# Altium integrated library Diodes - TVS.IntLib: 5379 symbols (part 23 of 122)
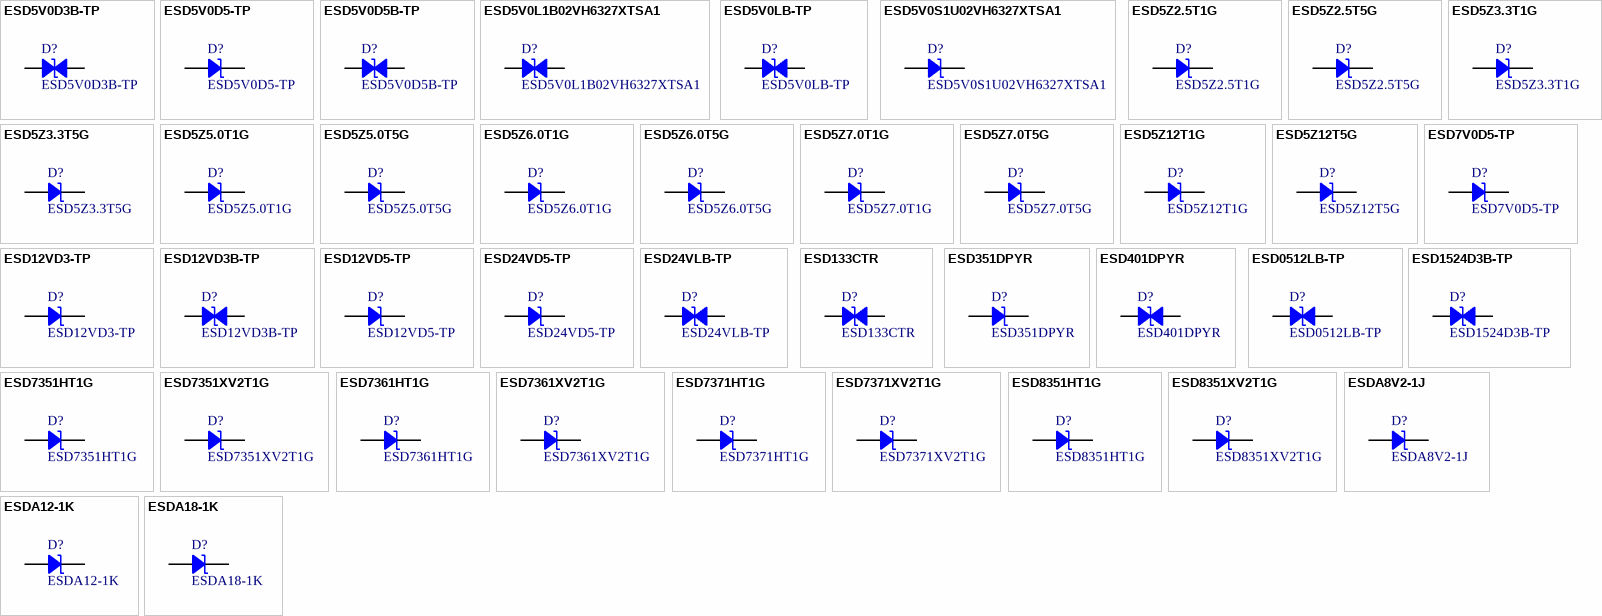
[diagram p156: symbols ESD5V0D3B-TP to ESDA18-1K]

## ESD5Z5.0T1G
designator D?
TVS DIODE 5V 18.6V SOD523; Manufacturer: ON Semiconductor; Capacitance @ Frequency: 80pF @ 1MHz; Current - Peak Pulse (10/1000µs): 9.4A (8/20µs); Power Line Protection: No; Power - Peak Pulse: 174W; Type: Zener; Unidirectional Channels: 1; Voltage - Breakdown (Min): 6.2V; Voltage - Reverse Standoff (Typ): 5V (Max); Part Number: ESD5Z5.0T1G; Applications: General Purpose; ComponentLink1Description: Datasheet; ComponentLink1URL: https://www.onsemi.com/pub/Collateral/ESD5Z2.5T1-D.PDF; ComponentLink2Description: DigiKey Link; ComponentLink2URL: http://digikey.com/product-detail/en/on-semiconductor/ESD5Z5.0T1G/ESD5Z5.0T1GOSCT-ND/1967045; LastUpdated: 9/2/2020 1:28:24 AM; Lifecycle Status: Active; Minimum Order: 1; Mounting Type: Surface Mount; Operating Temperature: -55°C ~ 150°C (TJ); Package / Case: SC-79, SOD-523; Packaging: TapeAndReel; PartId: 9755; Part Status: Active; Price: 0.04; Series: -; Supplier 1: DigiKey; Supplier Part Number 1: ESD5Z5.0T1GOSCT-ND; Supplier Device Package: SOD-523; Voltage - Clamping (Max) @ Ipp: 18.6V
footprint SOD523F
pins: 1, 2

## ESD5Z5.0T5G
designator D?
TVS DIODE 5V 18.6V SOD523; Manufacturer: ON Semiconductor; Capacitance @ Frequency: 80pF @ 1MHz; Current - Peak Pulse (10/1000µs): 9.4A (8/20µs); Power Line Protection: No; Power - Peak Pulse: 174W; Type: Zener; Unidirectional Channels: 1; Voltage - Breakdown (Min): 6.2V; Voltage - Reverse Standoff (Typ): 5V (Max); Part Number: ESD5Z5.0T5G; Applications: General Purpose; ComponentLink1Description: Datasheet; ComponentLink1URL: https://www.onsemi.com/pub/Collateral/ESD5Z2.5T1-D.PDF; ComponentLink2Description: DigiKey Link; ComponentLink2URL: http://digikey.com/product-detail/en/on-semiconductor/ESD5Z5.0T5G/ESD5Z5.0T5GOSCT-ND/9086485; LastUpdated: 9/2/2020 1:28:24 AM; Lifecycle Status: Active; Minimum Order: 1; Mounting Type: Surface Mount; Operating Temperature: -55°C ~ 150°C (TJ); Package / Case: SC-79, SOD-523; Packaging: TapeAndReel; PartId: 9791; Part Status: Active; Price: 0.03; Series: -; Supplier 1: DigiKey; Supplier Part Number 1: ESD5Z5.0T5GOSCT-ND; Supplier Device Package: SOD-523; Voltage - Clamping (Max) @ Ipp: 18.6V
footprint SOD523F
pins: 1, 2

## ESD5Z6.0T1G
designator D?
TVS DIODE 6V 20.5V SOD523; Manufacturer: ON Semiconductor; Capacitance @ Frequency: 70pF @ 1MHz; Current - Peak Pulse (10/1000µs): 8.8A (8/20µs); Power Line Protection: No; Power - Peak Pulse: 181W; Type: Zener; Unidirectional Channels: 1; Voltage - Breakdown (Min): 6.8V; Voltage - Reverse Standoff (Typ): 6V (Max); Part Number: ESD5Z6.0T1G; Applications: General Purpose; ComponentLink1Description: Datasheet; ComponentLink1URL: https://www.onsemi.com/pub/Collateral/ESD5Z2.5T1-D.PDF; ComponentLink2Description: DigiKey Link; ComponentLink2URL: http://digikey.com/product-detail/en/on-semiconductor/ESD5Z6.0T1G/ESD5Z6.0T1GOSCT-ND/1967046; LastUpdated: 9/2/2020 1:28:24 AM; Lifecycle Status: Active; Minimum Order: 1; Mounting Type: Surface Mount; Operating Temperature: -55°C ~ 150°C (TJ); Package / Case: SC-79, SOD-523; Packaging: TapeAndReel; PartId: 9804; Part Status: Active; Price: 0.04; Series: -; Supplier 1: DigiKey; Supplier Part Number 1: ESD5Z6.0T1GOSCT-ND; Supplier Device Package: SOD-523; Voltage - Clamping (Max) @ Ipp: 20.5V
footprint SOD523F
pins: 1, 2

## ESD5Z6.0T5G
designator D?
TVS DIODE 6V 20.5V SOD523; Manufacturer: ON Semiconductor; Capacitance @ Frequency: 70pF @ 1MHz; Current - Peak Pulse (10/1000µs): 8.8A (8/20µs); Power Line Protection: No; Power - Peak Pulse: 181W; Type: Zener; Unidirectional Channels: 1; Voltage - Breakdown (Min): 6.8V; Voltage - Reverse Standoff (Typ): 6V (Max); Part Number: ESD5Z6.0T5G; Applications: General Purpose; ComponentLink1Description: Datasheet; ComponentLink1URL: https://www.onsemi.com/pub/Collateral/ESD5Z2.5T1-D.PDF; ComponentLink2Description: DigiKey Link; ComponentLink2URL: http://digikey.com/product-detail/en/on-semiconductor/ESD5Z6.0T5G/ESD5Z6.0T5GOSCT-ND/9086486; LastUpdated: 9/2/2020 1:28:24 AM; Lifecycle Status: Active; Minimum Order: 1; Mounting Type: Surface Mount; Operating Temperature: -55°C ~ 150°C (TJ); Package / Case: SC-79, SOD-523; Packaging: TapeAndReel; PartId: 9807; Part Status: Active; Price: 0.03; Series: -; Supplier 1: DigiKey; Supplier Part Number 1: ESD5Z6.0T5GOSCT-ND; Supplier Device Package: SOD-523; Voltage - Clamping (Max) @ Ipp: 20.5V
footprint SOD523F
pins: 1, 2

## ESD5Z7.0T1G
designator D?
TVS DIODE 7V 22.7V SOD523; Manufacturer: ON Semiconductor; Capacitance @ Frequency: 65pF @ 1MHz; Current - Peak Pulse (10/1000µs): 8.8A (8/20µs); Power Line Protection: No; Power - Peak Pulse: 200W; Type: Zener; Unidirectional Channels: 1; Voltage - Breakdown (Min): 7.5V; Voltage - Reverse Standoff (Typ): 7V (Max); Part Number: ESD5Z7.0T1G; Applications: General Purpose; ComponentLink1Description: Datasheet; ComponentLink1URL: https://www.onsemi.com/pub/Collateral/ESD5Z2.5T1-D.PDF; ComponentLink2Description: DigiKey Link; ComponentLink2URL: http://digikey.com/product-detail/en/on-semiconductor/ESD5Z7.0T1G/ESD5Z7.0T1GOSCT-ND/2120622; LastUpdated: 9/2/2020 1:28:24 AM; Lifecycle Status: Active; Minimum Order: 1; Mounting Type: Surface Mount; Operating Temperature: -55°C ~ 150°C (TJ); Package / Case: SC-79, SOD-523; Packaging: TapeAndReel; PartId: 9808; Part Status: Active; Price: 0.03; Series: -; Supplier 1: DigiKey; Supplier Part Number 1: ESD5Z7.0T1GOSCT-ND; Supplier Device Package: SOD-523; Voltage - Clamping (Max) @ Ipp: 22.7V
footprint SOD523F
pins: 1, 2

## ESD5Z7.0T5G
designator D?
TVS DIODE 7V 22.7V SOD523; Manufacturer: ON Semiconductor; Capacitance @ Frequency: 65pF @ 1MHz; Current - Peak Pulse (10/1000µs): 8.8A (8/20µs); Power Line Protection: No; Power - Peak Pulse: 200W; Type: Zener; Unidirectional Channels: 1; Voltage - Breakdown (Min): 7.5V; Voltage - Reverse Standoff (Typ): 7V (Max); Part Number: ESD5Z7.0T5G; Applications: General Purpose; ComponentLink1Description: Datasheet; ComponentLink1URL: https://www.onsemi.com/pub/Collateral/ESD5Z2.5T1-D.PDF; ComponentLink2Description: DigiKey Link; ComponentLink2URL: http://digikey.com/product-detail/en/on-semiconductor/ESD5Z7.0T5G/ESD5Z7.0T5GOSCT-ND/9086487; LastUpdated: 9/2/2020 1:28:24 AM; Lifecycle Status: Active; Minimum Order: 1; Mounting Type: Surface Mount; Operating Temperature: -55°C ~ 150°C (TJ); Package / Case: SC-79, SOD-523; Packaging: CutTape; PartId: 9801; Part Status: Active; Price: 0.37; Series: -; Supplier 1: DigiKey; Supplier Part Number 1: ESD5Z7.0T5GOSCT-ND; Supplier Device Package: SOD-523; Voltage - Clamping (Max) @ Ipp: 22.7V
footprint SOD523F
pins: 1, 2

## ESD5Z12T1G
designator D?
TVS DIODE 12V 25V SOD523; Manufacturer: ON Semiconductor; Capacitance @ Frequency: 55pF @ 1MHz; Current - Peak Pulse (10/1000µs): 9.6A (8/20µs); Power Line Protection: No; Power - Peak Pulse: 240W; Type: Zener; Unidirectional Channels: 1; Voltage - Breakdown (Min): 14.1V; Voltage - Reverse Standoff (Typ): 12V (Max); Part Number: ESD5Z12T1G; Applications: General Purpose; ComponentLink1Description: Datasheet; ComponentLink1URL: https://www.onsemi.com/pub/Collateral/ESD5Z2.5T1-D.PDF; ComponentLink2Description: DigiKey Link; ComponentLink2URL: http://digikey.com/product-detail/en/on-semiconductor/ESD5Z12T1G/ESD5Z12T1GOSCT-ND/2120621; LastUpdated: 9/2/2020 1:28:24 AM; Lifecycle Status: Active; Minimum Order: 1; Mounting Type: Surface Mount; Operating Temperature: -55°C ~ 150°C (TJ); Package / Case: SC-79, SOD-523; Packaging: TapeAndReel; PartId: 9805; Part Status: Active; Price: 0.04; Series: -; Supplier 1: DigiKey; Supplier Part Number 1: ESD5Z12T1GOSCT-ND; Supplier Device Package: SOD-523; Voltage - Clamping (Max) @ Ipp: 25V
footprint SOD523F
pins: 1, 2

## ESD5Z12T5G
designator D?
TVS DIODE 12V 25V SOD523; Manufacturer: ON Semiconductor; Capacitance @ Frequency: 55pF @ 1MHz; Current - Peak Pulse (10/1000µs): 9.6A (8/20µs); Power Line Protection: No; Power - Peak Pulse: 240W; Type: Zener; Unidirectional Channels: 1; Voltage - Breakdown (Min): 14.1V; Voltage - Reverse Standoff (Typ): 12V (Max); Part Number: ESD5Z12T5G; Applications: General Purpose; ComponentLink1Description: Datasheet; ComponentLink1URL: https://www.onsemi.com/pub/Collateral/ESD5Z2.5T1-D.PDF; ComponentLink2Description: DigiKey Link; ComponentLink2URL: http://digikey.com/product-detail/en/on-semiconductor/ESD5Z12T5G/ESD5Z12T5GOSCT-ND/9086483; LastUpdated: 9/2/2020 1:28:23 AM; Lifecycle Status: Active; Minimum Order: 1; Mounting Type: Surface Mount; Operating Temperature: -55°C ~ 150°C (TJ); Package / Case: SC-79, SOD-523; Packaging: TapeAndReel; PartId: 9722; Part Status: Active; Price: 0.03; Series: -; Supplier 1: DigiKey; Supplier Part Number 1: ESD5Z12T5GOSCT-ND; Supplier Device Package: SOD-523; Voltage - Clamping (Max) @ Ipp: 25V
footprint SOD523F
pins: 1, 2

## ESD7V0D5-TP
designator D?
TVS DIODE 7V 22.7V SOD523; Manufacturer: Micro Commercial Co; Capacitance @ Frequency: 65pF @ 1MHz; Current - Peak Pulse (10/1000µs): 8.8A (8/20µs); Power Line Protection: No; Power - Peak Pulse: 200W; Type: Zener; Unidirectional Channels: 1; Voltage - Breakdown (Min): 7.5V; Voltage - Reverse Standoff (Typ): 7V (Max); Part Number: ESD7V0D5-TP; Applications: General Purpose; ComponentLink1Description: Datasheet; ComponentLink1URL: https://www.mccsemi.com/pdf/Products/ESD3V3D5-ESD12VD5(SOD-523).pdf; ComponentLink2Description: DigiKey Link; ComponentLink2URL: http://digikey.com/product-detail/en/micro-commercial-co/ESD7V0D5-TP/ESD7V0D5-TPMSCT-ND/1777010; LastUpdated: 9/2/2020 1:28:24 AM; Lifecycle Status: Active; Minimum Order: 1; Mounting Type: Surface Mount; Operating Temperature: -55°C ~ 150°C (TJ); Package / Case: SC-79, SOD-523; Packaging: TapeAndReel; PartId: 9781; Part Status: Active; Price: 0.06; Series: -; Supplier 1: DigiKey; Supplier Part Number 1: ESD7V0D5-TPMSCT-ND; Supplier Device Package: SOD-523; Voltage - Clamping (Max) @ Ipp: 22.7V
footprint SOD523F
pins: 1, 2

## ESD12VD3-TP
designator D?
TVS DIODE 12V 33V SOD323; Manufacturer: Micro Commercial Co; Capacitance @ Frequency: 150pF @ 1MHz; Current - Peak Pulse (10/1000µs): 15A (8/20µs); Power Line Protection: No; Power - Peak Pulse: 350W; Type: Zener; Unidirectional Channels: 1; Voltage - Breakdown (Min): 13.3V; Voltage - Reverse Standoff (Typ): 12V (Max); Part Number: ESD12VD3-TP; Applications: General Purpose; ComponentLink1Description: Datasheet; ComponentLink1URL: https://www.mccsemi.com/pdf/Products/ESD5V0D3-ESD12VD3(SOD-323).pdf; ComponentLink2Description: DigiKey Link; ComponentLink2URL: http://digikey.com/product-detail/en/micro-commercial-co/ESD12VD3-TP/ESD12VD3-TPMSCT-ND/1923301; LastUpdated: 9/2/2020 1:28:27 AM; Lifecycle Status: Active; Minimum Order: 1; Mounting Type: Surface Mount; Operating Temperature: -55°C ~ 150°C (TJ); Package / Case: SC-76, SOD-323; Packaging: TapeAndReel; PartId: 9880; Part Status: Active; Price: 0.06; Series: -; Supplier 1: DigiKey; Supplier Part Number 1: ESD12VD3-TPMSCT-ND; Supplier Device Package: SOD-323; Voltage - Clamping (Max) @ Ipp: 33V
footprint SOD323
pins: 1, 2

## ESD12VD3B-TP
designator D?
TVS DIODE 12V 15.5V SOD323; Manufacturer: Micro Commercial Co; Bidirectional Channels: 1; Capacitance @ Frequency: 80pF @ 1MHz; Current - Peak Pulse (10/1000µs): 1A (8/20µs); Power Line Protection: No; Power - Peak Pulse: 350W; Type: Zener; Voltage - Breakdown (Min): 13.5V; Voltage - Reverse Standoff (Typ): 12V (Max); Part Number: ESD12VD3B-TP; Applications: General Purpose; ComponentLink1Description: Datasheet; ComponentLink1URL: https://www.mccsemi.com/pdf/Products/ESD12VD3B(SOD-323).pdf; ComponentLink2Description: DigiKey Link; ComponentLink2URL: http://digikey.com/product-detail/en/micro-commercial-co/ESD12VD3B-TP/ESD12VD3B-TPMSCT-ND/2783889; LastUpdated: 9/2/2020 1:28:29 AM; Lifecycle Status: Active; Minimum Order: 1; Mounting Type: Surface Mount; Operating Temperature: -55°C ~ 150°C (TJ); Package / Case: SC-76, SOD-323; Packaging: TapeAndReel; PartId: 9922; Part Status: Active; Price: 0.11; Series: -; Supplier 1: DigiKey; Supplier Part Number 1: ESD12VD3B-TPMSCT-ND; Supplier Device Package: SOD-323; Voltage - Clamping (Max) @ Ipp: 15.5V
footprint SOD323
pins: 1, 2

## ESD12VD5-TP
designator D?
TVS DIODE 12V 25V SOD523; Manufacturer: Micro Commercial Co; Capacitance @ Frequency: 55pF @ 1MHz; Current - Peak Pulse (10/1000µs): 9.6A (8/20µs); Power Line Protection: No; Power - Peak Pulse: 240W; Type: Zener; Unidirectional Channels: 1; Voltage - Breakdown (Min): 14.1V; Voltage - Reverse Standoff (Typ): 12V (Max); Part Number: ESD12VD5-TP; Applications: General Purpose; ComponentLink1Description: Datasheet; ComponentLink1URL: https://www.mccsemi.com/pdf/Products/ESD3V3D5-ESD12VD5(SOD-523).pdf; ComponentLink2Description: DigiKey Link; ComponentLink2URL: http://digikey.com/product-detail/en/micro-commercial-co/ESD12VD5-TP/ESD12VD5-TPMSCT-ND/1777012; LastUpdated: 9/2/2020 1:28:24 AM; Lifecycle Status: Active; Minimum Order: 1; Mounting Type: Surface Mount; Operating Temperature: -55°C ~ 150°C (TJ); Package / Case: SC-79, SOD-523; Packaging: TapeAndReel; PartId: 9780; Part Status: Active; Price: 0.06; Series: -; Supplier 1: DigiKey; Supplier Part Number 1: ESD12VD5-TPMSCT-ND; Supplier Device Package: SOD-523; Voltage - Clamping (Max) @ Ipp: 25V
footprint SOD523F
pins: 1, 2

## ESD24VD5-TP
designator D?
ESDPROTECTIONDEVICESSOD-523; Manufacturer: Micro Commercial Co; Capacitance @ Frequency: 36pF @ 1MHz; Current - Peak Pulse (10/1000µs): 7.5A (8/20µs); Power Line Protection: No; Power - Peak Pulse: 330W; Type: Zener; Unidirectional Channels: 1; Voltage - Breakdown (Min): 26.7V; Voltage - Clamping (Max) @ Ipp: 44V; Voltage - Reverse Standoff (Typ): 24V (Max); Part Number: ESD24VD5-TP; Applications: General Purpose; ComponentLink1Description: Datasheet; ComponentLink1URL: https://www.mccsemi.com/pdf/Products/ESD24VD5(SOD-523)-V1.pdf; ComponentLink2Description: DigiKey Link; ComponentLink2URL: http://digikey.com/product-detail/en/micro-commercial-co/ESD24VD5-TP/ESD24VD5-TPMSCT-ND/10054349; LastUpdated: 9/2/2020 1:28:24 AM; Lifecycle Status: Active; Minimum Order: 1; Mounting Type: Surface Mount; Operating Temperature: -55°C ~ 150°C (TJ); Package / Case: SC-79, SOD-523; Packaging: TapeAndReel; PartId: 9798; Part Status: Active; Price: 0.07; Series: -; Supplier 1: DigiKey; Supplier Part Number 1: ESD24VD5-TPMSCT-ND; Supplier Device Package: SOD-523
footprint SOD523F
pins: 1, 2

## ESD24VLB-TP
designator D?
VARISTOR 24V DFN1006-2; Manufacturer: Micro Commercial Co; Bidirectional Channels: 1; Capacitance @ Frequency: 20pF @ 1MHz (Max); Current - Peak Pulse (10/1000µs): 5A (8/20µs); Power Line Protection: No; Power - Peak Pulse: 300W; Type: Zener; Voltage - Breakdown (Min): 27V; Voltage - Clamping (Max) @ Ipp: 40V; Voltage - Reverse Standoff (Typ): 24V (Max); Part Number: ESD24VLB-TP; Applications: General Purpose; ComponentLink1Description: Datasheet; ComponentLink1URL: https://www.mccsemi.com/pdf/Products/ESD24VLB(DFN1006-2)-V1.pdf; ComponentLink2Description: DigiKey Link; ComponentLink2URL: http://digikey.com/product-detail/en/micro-commercial-co/ESD24VLB-TP/ESD24VLB-TPMSCT-ND/10054457; Device Package: 0402 (1006 Metric); LastUpdated: 9/2/2020 1:28:49 AM; Lifecycle Status: Active; Minimum Order: 1; Mounting Type: Surface Mount; Operating Temperature: -55°C ~ 125°C (TJ); Package / Case: 0402 (1006 Metric); Packaging: TapeAndReel; PartId: 10481; Part Status: Active; Price: 0.06; Series: -; Supplier 1: DigiKey; Supplier Part Number 1: ESD24VLB-TPMSCT-ND; Supplier Device Package: DFN1006-2
footprint 0402
pins: 1, 2

## ESD133CTR
designator D?
33V STEERING DIODE,PACKAGE DFN10; Manufacturer: SMC Diode Solutions; Bidirectional Channels: 1; Capacitance @ Frequency: 12pF @ 1MHz; Current - Peak Pulse (10/1000µs): 4A (8/20µs); Power Line Protection: No; Type: Zener; Voltage - Breakdown (Min): 35V; Voltage - Clamping (Max) @ Ipp: 60V; Voltage - Reverse Standoff (Typ): 33V (Max); Part Number: ESD133CTR; Applications: General Purpose; ComponentLink1Description: Datasheet; ComponentLink1URL: http://www.smc-diodes.com/propdf/ESD133C%20N2233%20REV.B.pdf; ComponentLink2Description: DigiKey Link; ComponentLink2URL: http://digikey.com/product-detail/en/smc-diode-solutions/ESD133CTR/1655-ESD133CCT-ND/12173926; LastUpdated: 8/30/2020 9:08:11 PM; Lifecycle Status: Active; Minimum Order: 1; Mounting Type: Surface Mount; Operating Temperature: -55°C ~ 85°C (TA); Package / Case: 0402 (1006 Metric); Packaging: Unknown; PartId: 11497; Price: 0.03; Series: ESD133C; Supplier 1: DigiKey; Supplier Part Number 1: 1655-ESD133CCT-ND; Supplier Device Package: DFN1006-2L
footprint 0402
pins: 1, 2

## ESD351DPYR
designator D?
GENERAL PURPOSE ESD PROTECTION; Manufacturer: Texas Instruments; Capacitance @ Frequency: 1.8pF @ 1MHz; Current - Peak Pulse (10/1000µs): 16A; Power Line Protection: No; Power - Peak Pulse: 36W; Type: Zener; Unidirectional Channels: 1; Voltage - Breakdown (Min): 4.5V; Voltage - Clamping (Max) @ Ipp: 6.5V; Voltage - Reverse Standoff (Typ): 3.6V; Part Number: ESD351DPYR; Applications: General Purpose; ComponentLink1Description: Datasheet; ComponentLink1URL: http://www.ti.com/general/docs/suppproductinfo.tsp?distId=10&gotoUrl=http%3A%2F%2Fwww.ti.com%2Flit%2Fgpn%2Fesd351; ComponentLink2Description: DigiKey Link; ComponentLink2URL: http://digikey.com/product-detail/en/texas-instruments/ESD351DPYR/296-51109-1-ND/9745473; Device Package: 0402 (1006 Metric); LastUpdated: 9/2/2020 1:28:45 AM; Lifecycle Status: Active; Minimum Order: 1; Mounting Type: Surface Mount; Operating Temperature: -40°C ~ 125°C; Package / Case: 0402 (1006 Metric); Packaging: TapeAndReel; PartId: 10376; Part Status: Active; Price: 0.10; Series: -; Supplier 1: DigiKey; Supplier Part Number 1: 296-51109-1-ND; Supplier Device Package: 2-X1SON (1x.60)
footprint 0402
pins: 1, 2

## ESD401DPYR
designator D?
TVS DIODE 5.5V 24V 2X1SON; Manufacturer: Texas Instruments; Bidirectional Channels: 1; Current - Peak Pulse (10/1000µs): 4.5A (8/20µs); Power Line Protection: No; Power - Peak Pulse: 67W; Type: Zener; Voltage - Breakdown (Min): 7.5V; Voltage - Clamping (Max) @ Ipp: 24V (Typ); Voltage - Reverse Standoff (Typ): 5.5V (Max); Part Number: ESD401DPYR; Applications: General Purpose; ComponentLink1Description: Datasheet; ComponentLink1URL: http://www.ti.com/general/docs/suppproductinfo.tsp?distId=10&gotoUrl=http%3A%2F%2Fwww.ti.com%2Flit%2Fgpn%2Fesd401; ComponentLink2Description: DigiKey Link; ComponentLink2URL: http://digikey.com/product-detail/en/texas-instruments/ESD401DPYR/296-47160-1-ND/7650254; Device Package: 0402 (1006 Metric); LastUpdated: 9/2/2020 1:28:49 AM; Lifecycle Status: Active; Minimum Order: 1; Mounting Type: Surface Mount; Operating Temperature: -40°C ~ 125°C (TA); Package / Case: 0402 (1006 Metric); Packaging: TapeAndReel; PartId: 10459; Part Status: Active; Price: 0.12; Series: -; Supplier 1: DigiKey; Supplier Part Number 1: 296-47160-1-ND; Supplier Device Package: 2-X1SON (1x.60)
footprint 0402
pins: 1, 2

## ESD0512LB-TP
designator D?
5V, ESD PROTECTION DEVICES, DFN1; Manufacturer: Micro Commercial Co; Bidirectional Channels: 1; Capacitance @ Frequency: 30pF @ 1MHz; Current - Peak Pulse (10/1000µs): 10A (8/20µs); Power Line Protection: No; Power - Peak Pulse: 200W; Type: Zener; Voltage - Breakdown (Min): 11V; Voltage - Clamping (Max) @ Ipp: 20V (Typ); Voltage - Reverse Standoff (Typ): 5V (Max); Part Number: ESD0512LB-TP; Applications: General Purpose; ComponentLink2Description: DigiKey Link; ComponentLink2URL: http://digikey.com/product-detail/en/micro-commercial-co/ESD0512LB-TP/353-ESD0512LB-TPCT-ND/12177322; LastUpdated: 8/30/2020 9:08:11 PM; Lifecycle Status: Active; Minimum Order: 1; Mounting Type: Surface Mount; Package / Case: 0402 (1006 Metric); Packaging: Unknown; PartId: 11466; Price: 0.03; Supplier 1: DigiKey; Supplier Part Number 1: 353-ESD0512LB-TPCT-ND; Supplier Device Package: DFN1006-2
footprint 0402
pins: 1, 2

## ESD1524D3B-TP
designator D?
15V, ESD PROTECTION DEVICES, SOD; Manufacturer: Micro Commercial Co; Bidirectional Channels: 1; Capacitance @ Frequency: 13pF @ 1MHz (Max); Current - Peak Pulse (10/1000µs): 5A (8/20µs); Power Line Protection: No; Power - Peak Pulse: 160W; Type: Zener; Voltage - Breakdown (Min): 17.1V; Voltage - Clamping (Max) @ Ipp: 35V; Voltage - Reverse Standoff (Typ): 15V (Max); Part Number: ESD1524D3B-TP; Applications: General Purpose; ComponentLink2Description: DigiKey Link; ComponentLink2URL: http://digikey.com/product-detail/en/micro-commercial-co/ESD1524D3B-TP/353-ESD1524D3B-TPDKR-ND/12177326; LastUpdated: 8/30/2020 9:07:52 PM; Lifecycle Status: Active; Minimum Order: 1; Mounting Type: Surface Mount; Package / Case: SC-76, SOD-323; Packaging: Unknown; PartId: 11457; Price: 0.06; Supplier 1: DigiKey; Supplier Part Number 1: 353-ESD1524D3B-TPDKR-ND; Supplier Device Package: SOD-323
footprint SOD323
pins: 1, 2

## ESD7351HT1G
designator D?
TVS DIODE 3.3V SOD323; Manufacturer: ON Semiconductor; Capacitance @ Frequency: 0.43pF @ 1MHz; Power Line Protection: No; Type: Zener; Unidirectional Channels: 1; Voltage - Breakdown (Min): 5V; Voltage - Reverse Standoff (Typ): 3.3V (Max); Part Number: ESD7351HT1G; Applications: RF Antenna; ComponentLink1Description: Datasheet; ComponentLink1URL: http://www.onsemi.com/pub/Collateral/ESD7351-D.PDF; ComponentLink2Description: DigiKey Link; ComponentLink2URL: http://digikey.com/product-detail/en/on-semiconductor/ESD7351HT1G/ESD7351HT1GOSCT-ND/9086491; LastUpdated: 9/2/2020 1:28:27 AM; Lifecycle Status: Active; Minimum Order: 1; Mounting Type: Surface Mount; Operating Temperature: -55°C ~ 150°C (TJ); Package / Case: SC-76, SOD-323; Packaging: TapeAndReel; PartId: 9870; Part Status: Active; Price: 0.08; Series: -; Supplier 1: DigiKey; Supplier Part Number 1: ESD7351HT1GOSCT-ND; Supplier Device Package: SOD-323
footprint SOD323
pins: 1, 2

## ESD7351XV2T1G
designator D?
TVS DIODE 3.3VWM SOD-523-2; Manufacturer: ON Semiconductor; Capacitance @ Frequency: 0.43pF @ 1MHz; Power Line Protection: No; Type: Zener; Unidirectional Channels: 1; Voltage - Breakdown (Min): 5V; Voltage - Reverse Standoff (Typ): 3.3V (Max); Part Number: ESD7351XV2T1G; Applications: RF Antenna; ComponentLink1Description: Datasheet; ComponentLink1URL: http://www.onsemi.com/pub/Collateral/ESD7351-D.PDF; ComponentLink2Description: DigiKey Link; ComponentLink2URL: http://digikey.com/product-detail/en/on-semiconductor/ESD7351XV2T1G/ESD7351XV2T1GOSCT-ND/8538424; LastUpdated: 9/2/2020 1:28:24 AM; Lifecycle Status: Active; Minimum Order: 1; Mounting Type: Surface Mount; Operating Temperature: -55°C ~ 150°C (TJ); Package / Case: SC-79, SOD-523; Packaging: TapeAndReel; PartId: 9782; Part Status: Active; Price: 0.05; Series: -; Supplier 1: DigiKey; Supplier Part Number 1: ESD7351XV2T1GOSCT-ND; Supplier Device Package: SOD-523
footprint SOD523F
pins: 1, 2

## ESD7361HT1G
designator D?
TVS DIODE 5VWM 34VC SOD-323; Manufacturer: ON Semiconductor; Capacitance @ Frequency: 0.55pF @ 1MHz; Current - Peak Pulse (10/1000µs): 16A (100ns); Power Line Protection: No; Type: Zener; Unidirectional Channels: 1; Voltage - Breakdown (Min): 16.5V; Voltage - Clamping (Max) @ Ipp: 34V (Typ); Voltage - Reverse Standoff (Typ): 5V; Part Number: ESD7361HT1G; Applications: General Purpose; ComponentLink1Description: Datasheet; ComponentLink1URL: http://www.onsemi.com/pub/Collateral/ESD7361-D.PDF; ComponentLink2Description: DigiKey Link; ComponentLink2URL: http://digikey.com/product-detail/en/on-semiconductor/ESD7361HT1G/ESD7361HT1GOSCT-ND/8538425; LastUpdated: 9/2/2020 1:28:26 AM; Lifecycle Status: Active; Minimum Order: 1; Mounting Type: Surface Mount; Operating Temperature: -55°C ~ 125°C (TJ); Package / Case: SC-76, SOD-323; Packaging: TapeAndReel; PartId: 9849; Part Status: Active; Price: 0.09; Series: -; Supplier 1: DigiKey; Supplier Part Number 1: ESD7361HT1GOSCT-ND; Supplier Device Package: SOD-323
footprint SOD323
pins: 1, 2

## ESD7361XV2T1G
designator D?
TVS DIODE 5V 34V SOD523; Manufacturer: ON Semiconductor; Capacitance @ Frequency: 0.55pF @ 1MHz; Current - Peak Pulse (10/1000µs): 16A (100ns); Power Line Protection: No; Type: Zener; Unidirectional Channels: 1; Voltage - Breakdown (Min): 16.5V; Voltage - Clamping (Max) @ Ipp: 34V (Typ); Part Number: ESD7361XV2T1G; Applications: General Purpose; ComponentLink1Description: Datasheet; ComponentLink1URL: http://www.onsemi.com/pub/Collateral/ESD7361-D.PDF; ComponentLink2Description: DigiKey Link; ComponentLink2URL: http://digikey.com/product-detail/en/on-semiconductor/ESD7361XV2T1G/ESD7361XV2T1GOSCT-ND/9086493; LastUpdated: 9/2/2020 1:28:24 AM; Lifecycle Status: Active; Minimum Order: 1; Mounting Type: Surface Mount; Operating Temperature: -55°C ~ 125°C (TJ); Package / Case: SC-79, SOD-523; Packaging: TapeAndReel; PartId: 9760; Part Status: Active; Price: 0.09; Series: -; Supplier 1: DigiKey; Supplier Part Number 1: ESD7361XV2T1GOSCT-ND; Supplier Device Package: SOD-523; Voltage - Reverse Standoff (Typ): 5V
footprint SOD523F
pins: 1, 2

## ESD7371HT1G
designator D?
TVS DIODE 5.3V SOD323; Manufacturer: ON Semiconductor; Capacitance @ Frequency: 0.43pF @ 1MHz; Power Line Protection: No; Type: Zener; Unidirectional Channels: 1; Voltage - Breakdown (Min): 7V; Voltage - Reverse Standoff (Typ): 5.3V (Max); Part Number: ESD7371HT1G; Applications: RF Antenna; ComponentLink1Description: Datasheet; ComponentLink1URL: http://www.onsemi.com/pub/Collateral/ESD7371-D.PDF; ComponentLink2Description: DigiKey Link; ComponentLink2URL: http://digikey.com/product-detail/en/on-semiconductor/ESD7371HT1G/ESD7371HT1GOSCT-ND/5969220; LastUpdated: 9/2/2020 1:28:27 AM; Lifecycle Status: Active; Minimum Order: 1; Mounting Type: Surface Mount; Operating Temperature: -55°C ~ 150°C (TJ); Package / Case: SC-76, SOD-323; Packaging: TapeAndReel; PartId: 9877; Part Status: Active; Price: 0.08; Series: -; Supplier 1: DigiKey; Supplier Part Number 1: ESD7371HT1GOSCT-ND; Supplier Device Package: SOD-323
footprint SOD323
pins: 1, 2

## ESD7371XV2T1G
designator D?
TVS DIODE 5.3VWM SOD-523-2; Manufacturer: ON Semiconductor; Capacitance @ Frequency: 0.43pF @ 1MHz; Power Line Protection: No; Type: Zener; Unidirectional Channels: 1; Voltage - Breakdown (Min): 7V; Voltage - Reverse Standoff (Typ): 5.3V (Max); Part Number: ESD7371XV2T1G; Applications: RF Antenna; ComponentLink1Description: Datasheet; ComponentLink1URL: http://www.onsemi.com/pub/Collateral/ESD7371-D.PDF; ComponentLink2Description: DigiKey Link; ComponentLink2URL: http://digikey.com/product-detail/en/on-semiconductor/ESD7371XV2T1G/ESD7371XV2T1GOSCT-ND/8538427; LastUpdated: 9/2/2020 1:28:24 AM; Lifecycle Status: Active; Minimum Order: 1; Mounting Type: Surface Mount; Operating Temperature: -55°C ~ 150°C (TJ); Package / Case: SC-79, SOD-523; Packaging: TapeAndReel; PartId: 9783; Part Status: Active; Price: 0.05; Series: -; Supplier 1: DigiKey; Supplier Part Number 1: ESD7371XV2T1GOSCT-ND; Supplier Device Package: SOD-523
footprint SOD523F
pins: 1, 2

## ESD8351HT1G
designator D?
TVS DIODE 3.3VWM 11.2VC SOD323; Manufacturer: ON Semiconductor; Capacitance @ Frequency: 0.37pF @ 1MHz; Current - Peak Pulse (10/1000µs): 5A (8/20µs); Power Line Protection: No; Type: Zener; Unidirectional Channels: 1; Voltage - Breakdown (Min): 5.5V; Voltage - Clamping (Max) @ Ipp: 11.2V; Voltage - Reverse Standoff (Typ): 3.3V (Max); Part Number: ESD8351HT1G; Applications: General Purpose; ComponentLink1Description: Datasheet; ComponentLink1URL: http://www.onsemi.com/pub/Collateral/ESD8351-D.PDF; ComponentLink2Description: DigiKey Link; ComponentLink2URL: http://digikey.com/product-detail/en/on-semiconductor/ESD8351HT1G/ESD8351HT1GOSCT-ND/8538432; LastUpdated: 9/2/2020 1:28:26 AM; Lifecycle Status: Active; Minimum Order: 1; Mounting Type: Surface Mount; Operating Temperature: -55°C ~ 125°C (TJ); Package / Case: SC-76, SOD-323; Packaging: TapeAndReel; PartId: 9840; Part Status: Active; Price: 0.06; Series: -; Supplier 1: DigiKey; Supplier Part Number 1: ESD8351HT1GOSCT-ND; Supplier Device Package: SOD-323
footprint SOD323
pins: 1, 2

## ESD8351XV2T1G
designator D?
TVS DIODE 3.3V 11.2V SOD523; Manufacturer: ON Semiconductor; Capacitance @ Frequency: 0.37pF @ 1MHz; Current - Peak Pulse (10/1000µs): 5A (8/20µs); Power Line Protection: No; Type: Zener; Unidirectional Channels: 1; Voltage - Breakdown (Min): 5.5V; Voltage - Reverse Standoff (Typ): 3.3V (Max); Part Number: ESD8351XV2T1G; Applications: General Purpose; ComponentLink1Description: Datasheet; ComponentLink1URL: http://www.onsemi.com/pub/Collateral/ESD8351-D.PDF; ComponentLink2Description: DigiKey Link; ComponentLink2URL: http://digikey.com/product-detail/en/on-semiconductor/ESD8351XV2T1G/ESD8351XV2T1GOSCT-ND/6007832; LastUpdated: 9/2/2020 1:28:24 AM; Lifecycle Status: Active; Minimum Order: 1; Mounting Type: Surface Mount; Operating Temperature: -55°C ~ 125°C (TJ); Package / Case: SC-79, SOD-523; Packaging: TapeAndReel; PartId: 9786; Part Status: Active; Price: 0.06; Series: -; Supplier 1: DigiKey; Supplier Part Number 1: ESD8351XV2T1GOSCT-ND; Supplier Device Package: SOD-523; Voltage - Clamping (Max) @ Ipp: 11.2V
footprint SOD523F
pins: 1, 2

## ESDA8V2-1J
designator D?
TVS DIODE 5V 20V SOD323; Manufacturer: STMicroelectronics; Capacitance @ Frequency: 210pF @ 1MHz; Current - Peak Pulse (10/1000µs): 25A (8/20µs); Power Line Protection: No; Power - Peak Pulse: 500W; Type: Zener; Unidirectional Channels: 1; Voltage - Breakdown (Min): 8.2V; Part Number: ESDA8V2-1J; Applications: General Purpose; ComponentLink1Description: Datasheet; ComponentLink1URL: http://www.st.com/content/ccc/resource/technical/document/datasheet/fc/e4/b8/75/43/a8/49/11/CD00233088.pdf/files/CD00233088.pdf/jcr:content/translations/en.CD00233088.pdf; ComponentLink2Description: DigiKey Link; ComponentLink2URL: http://digikey.com/product-detail/en/stmicroelectronics/ESDA8V2-1J/497-10893-1-ND/2522513; LastUpdated: 9/2/2020 1:28:27 AM; Lifecycle Status: Active; Minimum Order: 1; Mounting Type: Surface Mount; Operating Temperature: -40°C ~ 125°C (TJ); Package / Case: SC-76, SOD-323; Packaging: TapeAndReel; PartId: 9881; Part Status: Active; Price: 0.06; Series: ESDA, TRANSIL™; Supplier 1: DigiKey; Supplier Part Number 1: 497-10893-1-ND; Supplier Device Package: SOD-323; Voltage - Clamping (Max) @ Ipp: 20V; Voltage - Reverse Standoff (Typ): 5V
footprint SOD323
pins: 1, 2

## ESDA12-1K
designator D?
TVS DIODE 10V 28V SOD523; Manufacturer: STMicroelectronics; Capacitance @ Frequency: 150pF @ 1MHz; Current - Peak Pulse (10/1000µs): 16A (8/20µs); Power Line Protection: No; Power - Peak Pulse: 450W; Type: Zener; Unidirectional Channels: 1; Voltage - Breakdown (Min): 12V; Part Number: ESDA12-1K; Applications: General Purpose; ComponentLink1Description: Datasheet; ComponentLink1URL: http://www.st.com/content/ccc/resource/technical/document/datasheet/e5/70/51/55/b8/1a/41/8f/CD00283838.pdf/files/CD00283838.pdf/jcr:content/translations/en.CD00283838.pdf; ComponentLink2Description: DigiKey Link; ComponentLink2URL: http://digikey.com/product-detail/en/stmicroelectronics/ESDA12-1K/497-10766-1-ND/2440285; LastUpdated: 9/2/2020 1:28:24 AM; Lifecycle Status: Active; Minimum Order: 1; Mounting Type: Surface Mount; Operating Temperature: -40°C ~ 150°C (TJ); Package / Case: SC-79, SOD-523; Packaging: TapeAndReel; PartId: 9756; Part Status: Active; Price: 0.08; Series: ESDA, TRANSIL™; Supplier 1: DigiKey; Supplier Part Number 1: 497-10766-1-ND; Supplier Device Package: SOD-523; Voltage - Clamping (Max) @ Ipp: 28V; Voltage - Reverse Standoff (Typ): 10V
footprint SOD523F
pins: 1, 2

## ESDA18-1K
designator D?
TVS DIODE 15V 34V SOD523; Manufacturer: STMicroelectronics; Capacitance @ Frequency: 105pF @ 1MHz; Current - Peak Pulse (10/1000µs): 12A (8/20µs); Power Line Protection: No; Power - Peak Pulse: 400W; Type: Zener; Unidirectional Channels: 1; Voltage - Breakdown (Min): 18V; Part Number: ESDA18-1K; Applications: General Purpose; ComponentLink1Description: Datasheet; ComponentLink1URL: http://www.st.com/content/ccc/resource/technical/document/datasheet/e5/70/51/55/b8/1a/41/8f/CD00283838.pdf/files/CD00283838.pdf/jcr:content/translations/en.CD00283838.pdf; ComponentLink2Description: DigiKey Link; ComponentLink2URL: http://digikey.com/product-detail/en/stmicroelectronics/ESDA18-1K/497-10767-1-ND/2440286; LastUpdated: 9/2/2020 1:28:24 AM; Lifecycle Status: Active; Minimum Order: 1; Mounting Type: Surface Mount; Operating Temperature: -40°C ~ 150°C (TJ); Package / Case: SC-79, SOD-523; Packaging: TapeAndReel; PartId: 9770; Part Status: Active; Price: 0.08; Series: ESDA, TRANSIL™; Supplier 1: DigiKey; Supplier Part Number 1: 497-10767-1-ND; Supplier Device Package: SOD-523; Voltage - Clamping (Max) @ Ipp: 34V; Voltage - Reverse Standoff (Typ): 15V
footprint SOD523F
pins: 1, 2

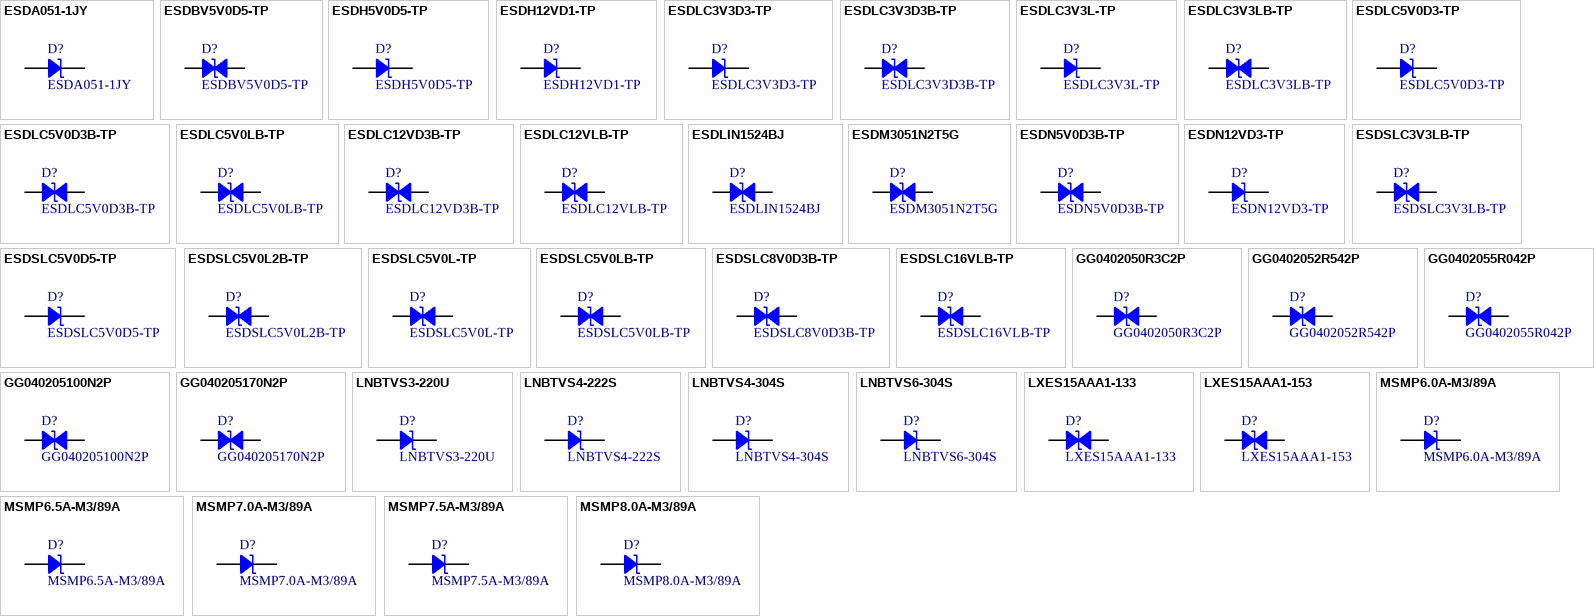
[diagram p25: symbols ESDA051-1JY to MSMP8.0A-M3/89A]

## ESDA051-1JY
designator D?
AUTOMOTIVE SINGLE LINE 5V TVS IN; Manufacturer: STMicroelectronics; Current - Peak Pulse (10/1000µs): 20A (8/20µs); Power Line Protection: No; Type: Zener; Unidirectional Channels: 1; Voltage - Breakdown (Min): 6.2V; Voltage - Clamping (Max) @ Ipp: 12.8V; Voltage - Reverse Standoff (Typ): 5V (Max); Part Number: ESDA051-1JY; Applications: Automotive; ComponentLink2Description: DigiKey Link; ComponentLink2URL: http://digikey.com/product-detail/en/stmicroelectronics/ESDA051-1JY/497-ESDA051-1JYCT-ND/11686353; LastUpdated: 8/30/2020 9:07:50 PM; Lifecycle Status: Active; Minimum Order: 1; Mounting Type: Surface Mount; Operating Temperature: -55°C ~ 150°C (TJ); Package / Case: SC-76, SOD-323; Packaging: TapeAndReel; PartId: 11456; Price: 0.05; Series: Automotive, AEC-Q101, ESDA; Supplier 1: DigiKey; Supplier Part Number 1: 497-ESDA051-1JYCT-ND; Supplier Device Package: SOD-323
footprint SOD323
pins: 1, 2

## ESDBV5V0D5-TP
designator D?
5V,ESD PROTECTION DEVICES,SOD-52; Manufacturer: Micro Commercial Co; Bidirectional Channels: 1; Capacitance @ Frequency: 3pF @ 1MHz; Current - Peak Pulse (10/1000µs): 4A (8/20µs); Power Line Protection: No; Power - Peak Pulse: 52W; Type: Zener; Voltage - Breakdown (Min): 5.6V; Voltage - Clamping (Max) @ Ipp: 13V; Voltage - Reverse Standoff (Typ): 5V (Max); Part Number: ESDBV5V0D5-TP; Applications: General Purpose; ComponentLink1Description: Datasheet; ComponentLink1URL: https://www.mccsemi.com/pdf/Products/ESDBV5V0D5(SOD-523)-A.pdf; ComponentLink2Description: DigiKey Link; ComponentLink2URL: http://digikey.com/product-detail/en/micro-commercial-co/ESDBV5V0D5-TP/ESDBV5V0D5-TPMSCT-ND/8554521; LastUpdated: 9/2/2020 1:28:25 AM; Lifecycle Status: Active; Minimum Order: 1; Mounting Type: Surface Mount; Operating Temperature: -55°C ~ 150°C (TJ); Package / Case: SC-79, SOD-523; Packaging: TapeAndReel; PartId: 9797; Part Status: Active; Price: 0.07; Series: -; Supplier 1: DigiKey; Supplier Part Number 1: ESDBV5V0D5-TPMSCT-ND; Supplier Device Package: SOD-523; Unidirectional Channels: 1
footprint SOD523F
pins: 1, 2

## ESDH5V0D5-TP
designator D?
ESD PROTECTION DEVICESSOD-523; Manufacturer: Micro Commercial Co; Capacitance @ Frequency: 160pF @ 1MHz; Current - Peak Pulse (10/1000µs): 22A (8/20µs); Power Line Protection: No; Power - Peak Pulse: 300W; Type: Zener; Unidirectional Channels: 1; Voltage - Breakdown (Min): 6V; Voltage - Clamping (Max) @ Ipp: 14V; Voltage - Reverse Standoff (Typ): 5V (Max); Part Number: ESDH5V0D5-TP; Applications: General Purpose; ComponentLink1Description: Datasheet; ComponentLink1URL: https://www.mccsemi.com/pdf/Products/ESDH5V0D5(SOD-523)-V1.pdf; ComponentLink2Description: DigiKey Link; ComponentLink2URL: http://digikey.com/product-detail/en/micro-commercial-co/ESDH5V0D5-TP/ESDH5V0D5-TPMSCT-ND/10054350; LastUpdated: 9/2/2020 1:28:24 AM; Lifecycle Status: Active; Minimum Order: 1; Mounting Type: Surface Mount; Operating Temperature: -55°C ~ 125°C (TJ); Package / Case: SC-79, SOD-523; Packaging: TapeAndReel; PartId: 9790; Part Status: Active; Price: 0.05; Series: -; Supplier 1: DigiKey; Supplier Part Number 1: ESDH5V0D5-TPMSCT-ND; Supplier Device Package: SOD-523
footprint SOD523F
pins: 1, 2

## ESDH12VD1-TP
designator D?
TVS DIODE 12V 35V SOD123; Manufacturer: Micro Commercial Co; Capacitance @ Frequency: 620pF @ 1MHz; Current - Peak Pulse (10/1000µs): 120A (8/20µs); Power Line Protection: No; Power - Peak Pulse: 4200W (4.2kW); Type: Zener; Unidirectional Channels: 1; Voltage - Breakdown (Min): 13V; Voltage - Reverse Standoff (Typ): 12V (Max); Part Number: ESDH12VD1-TP; Applications: General Purpose; ComponentLink1Description: Datasheet; ComponentLink1URL: https://www.mccsemi.com/pdf/Products/ESDH12VD1(SOD-123)-A.pdf; ComponentLink2Description: DigiKey Link; ComponentLink2URL: http://digikey.com/product-detail/en/micro-commercial-co/ESDH12VD1-TP/ESDH12VD1-TPMSCT-ND/6004818; LastUpdated: 9/2/2020 1:28:32 AM; Lifecycle Status: Active; Minimum Order: 1; Mounting Type: Surface Mount; Operating Temperature: -55°C ~ 150°C (TJ); Package / Case: SOD-123; Packaging: TapeAndReel; PartId: 10021; Part Status: Active; Price: 0.13; Series: -; Supplier 1: DigiKey; Supplier Part Number 1: ESDH12VD1-TPMSCT-ND; Supplier Device Package: SOD-123; Voltage - Clamping (Max) @ Ipp: 35V
footprint SOD-123
pins: 1, 2

## ESDLC3V3D3-TP
designator D?
TVS DIODE 3.3V 36V SOD323; Manufacturer: Micro Commercial Co; Capacitance @ Frequency: 4.5pF @ 1MHz; Current - Peak Pulse (10/1000µs): 28A (8/20µs); Power Line Protection: No; Power - Peak Pulse: 350W; Type: Zener; Unidirectional Channels: 1; Voltage - Breakdown (Min): 4V; Part Number: ESDLC3V3D3-TP; Applications: General Purpose; ComponentLink1Description: Datasheet; ComponentLink1URL: https://www.mccsemi.com/pdf/Products/ESDLC3V3D3-ESDLC12VD3(SOD-323).pdf; ComponentLink2Description: DigiKey Link; ComponentLink2URL: http://digikey.com/product-detail/en/micro-commercial-co/ESDLC3V3D3-TP/ESDLC3V3D3-TPMSCT-ND/2512845; LastUpdated: 9/2/2020 1:28:26 AM; Lifecycle Status: Active; Minimum Order: 1; Mounting Type: Surface Mount; Operating Temperature: -55°C ~ 150°C (TJ); Package / Case: SC-76, SOD-323; Packaging: TapeAndReel; PartId: 9841; Part Status: Active; Price: 0.27; Series: -; Supplier 1: DigiKey; Supplier Part Number 1: ESDLC3V3D3-TPMSCT-ND; Supplier Device Package: SOD-323; Voltage - Clamping (Max) @ Ipp: 36V; Voltage - Reverse Standoff (Typ): 3.3V
footprint SOD323
pins: 1, 2

## ESDLC3V3D3B-TP
designator D?
TVS DIODE 3.3V 36V SOD323; Manufacturer: Micro Commercial Co; Bidirectional Channels: 1; Capacitance @ Frequency: 4.5pF @ 1MHz; Current - Peak Pulse (10/1000µs): 28A (8/20µs); Power Line Protection: No; Power - Peak Pulse: 350W; Type: Zener; Voltage - Breakdown (Min): 4V; Part Number: ESDLC3V3D3B-TP; Applications: General Purpose; ComponentLink1Description: Datasheet; ComponentLink1URL: https://www.mccsemi.com/pdf/Products/ESDLC3V3D3B-ESDLC12VD3B(SOD-323).pdf; ComponentLink2Description: DigiKey Link; ComponentLink2URL: http://digikey.com/product-detail/en/micro-commercial-co/ESDLC3V3D3B-TP/ESDLC3V3D3B-TPMSCT-ND/2512846; LastUpdated: 9/2/2020 1:28:28 AM; Lifecycle Status: Active; Minimum Order: 1; Mounting Type: Surface Mount; Operating Temperature: -55°C ~ 150°C (TJ); Package / Case: SC-76, SOD-323; Packaging: TapeAndReel; PartId: 9920; Part Status: Active; Price: 0.27; Series: -; Supplier 1: DigiKey; Supplier Part Number 1: ESDLC3V3D3B-TPMSCT-ND; Supplier Device Package: SOD-323; Voltage - Clamping (Max) @ Ipp: 36V; Voltage - Reverse Standoff (Typ): 3.3V
footprint SOD323
pins: 1, 2

## ESDLC3V3L-TP
designator D?
TVS DIODE 3.3V 15V DFN1006-2; Manufacturer: Micro Commercial Co; Capacitance @ Frequency: 22pF @ 1MHz; Current - Peak Pulse (10/1000µs): 10A (8/20µs); Power Line Protection: No; Power - Peak Pulse: 150W; Type: Zener; Unidirectional Channels: 1; Voltage - Reverse Standoff (Typ): 3.3V (Max); Part Number: ESDLC3V3L-TP; Applications: General Purpose; ComponentLink1Description: Datasheet; ComponentLink1URL: https://www.mccsemi.com/pdf/Products/ESDLC3V3L(DFN1006-2)-A.pdf; ComponentLink2Description: DigiKey Link; ComponentLink2URL: http://digikey.com/product-detail/en/micro-commercial-co/ESDLC3V3L-TP/ESDLC3V3L-TPMSCT-ND/7681669; Device Package: 0402 (1006 Metric); LastUpdated: 9/2/2020 1:28:45 AM; Lifecycle Status: Active; Minimum Order: 1; Mounting Type: Surface Mount; Operating Temperature: -55°C ~ 125°C (TJ); Package / Case: 0402 (1006 Metric); Packaging: TapeAndReel; PartId: 10373; Part Status: Active; Price: 0.03; Series: -; Supplier 1: DigiKey; Supplier Part Number 1: ESDLC3V3L-TPMSCT-ND; Supplier Device Package: DFN1006-2; Voltage - Clamping (Max) @ Ipp: 15V
footprint 0402
pins: 1, 2

## ESDLC3V3LB-TP
designator D?
TVS DIODE 3.3V 11V DFN1006-2; Manufacturer: Micro Commercial Co; Bidirectional Channels: 1; Capacitance @ Frequency: 2.6pF @ 1MHz; Power Line Protection: No; Type: Zener; Voltage - Breakdown (Min): 4.3V; Voltage - Reverse Standoff (Typ): 3.3V (Max); Part Number: ESDLC3V3LB-TP; Applications: General Purpose; ComponentLink1Description: Datasheet; ComponentLink1URL: https://www.mccsemi.com/pdf/Products/ESDLC3V3LB(DFN1006-2)-A.pdf; ComponentLink2Description: DigiKey Link; ComponentLink2URL: http://digikey.com/product-detail/en/micro-commercial-co/ESDLC3V3LB-TP/ESDLC3V3LB-TPMSCT-ND/7681668; Device Package: 0402 (1006 Metric); LastUpdated: 9/2/2020 1:28:48 AM; Lifecycle Status: Active; Minimum Order: 1; Mounting Type: Surface Mount; Operating Temperature: -55°C ~ 150°C (TJ); Package / Case: 0402 (1006 Metric); Packaging: TapeAndReel; PartId: 10427; Part Status: Active; Price: 0.03; Series: -; Supplier 1: DigiKey; Supplier Part Number 1: ESDLC3V3LB-TPMSCT-ND; Supplier Device Package: DFN1006-2; Voltage - Clamping (Max) @ Ipp: 11V
footprint 0402
pins: 1, 2

## ESDLC5V0D3-TP
designator D?
TVS DIODE 5V 32V SOD323; Manufacturer: Micro Commercial Co; Capacitance @ Frequency: 5pF @ 1MHz; Current - Peak Pulse (10/1000µs): 21A (8/20µs); Power Line Protection: No; Power - Peak Pulse: 350W; Type: Zener; Unidirectional Channels: 1; Voltage - Breakdown (Min): 6V; Part Number: ESDLC5V0D3-TP; Applications: General Purpose; ComponentLink1Description: Datasheet; ComponentLink1URL: https://www.mccsemi.com/pdf/Products/ESDLC3V3D3-ESDLC12VD3(SOD-323).pdf; ComponentLink2Description: DigiKey Link; ComponentLink2URL: http://digikey.com/product-detail/en/micro-commercial-co/ESDLC5V0D3-TP/ESDLC5V0D3-TPMSCT-ND/2512847; LastUpdated: 9/2/2020 1:28:26 AM; Lifecycle Status: Active; Minimum Order: 1; Mounting Type: Surface Mount; Operating Temperature: -55°C ~ 150°C (TJ); Package / Case: SC-76, SOD-323; Packaging: TapeAndReel; PartId: 9852; Part Status: Active; Price: 0.27; Series: -; Supplier 1: DigiKey; Supplier Part Number 1: ESDLC5V0D3-TPMSCT-ND; Supplier Device Package: SOD-323; Voltage - Clamping (Max) @ Ipp: 32V; Voltage - Reverse Standoff (Typ): 5V
footprint SOD323
pins: 1, 2

## ESDLC5V0D3B-TP
designator D?
TVS DIODE 5V 32V SOD323; Manufacturer: Micro Commercial Co; Bidirectional Channels: 1; Capacitance @ Frequency: 5pF @ 1MHz; Current - Peak Pulse (10/1000µs): 21A (8/20µs); Power Line Protection: No; Power - Peak Pulse: 350W; Type: Zener; Voltage - Breakdown (Min): 6V; Part Number: ESDLC5V0D3B-TP; Applications: General Purpose; ComponentLink1Description: Datasheet; ComponentLink1URL: https://www.mccsemi.com/pdf/Products/ESDLC3V3D3B-ESDLC12VD3B(SOD-323).pdf; ComponentLink2Description: DigiKey Link; ComponentLink2URL: http://digikey.com/product-detail/en/micro-commercial-co/ESDLC5V0D3B-TP/ESDLC5V0D3B-TPMSCT-ND/2512848; LastUpdated: 9/2/2020 1:28:29 AM; Lifecycle Status: Active; Minimum Order: 1; Mounting Type: Surface Mount; Operating Temperature: -55°C ~ 150°C (TJ); Package / Case: SC-76, SOD-323; Packaging: TapeAndReel; PartId: 9985; Part Status: Active; Price: 0.27; Series: -; Supplier 1: DigiKey; Supplier Part Number 1: ESDLC5V0D3B-TPMSCT-ND; Supplier Device Package: SOD-323; Voltage - Clamping (Max) @ Ipp: 32V; Voltage - Reverse Standoff (Typ): 5V
footprint SOD323
pins: 1, 2

## ESDLC5V0LB-TP
designator D?
TVS DIODE 5.5V DFN1006-2; Manufacturer: Micro Commercial Co; Bidirectional Channels: 1; Capacitance @ Frequency: 10pF @ 1MHz; Current - Peak Pulse (10/1000µs): 7A (8/20µs); Power Line Protection: No; Power - Peak Pulse: 105W; Type: Zener; Voltage - Breakdown (Min): 6V; Voltage - Clamping (Max) @ Ipp: 15V; Voltage - Reverse Standoff (Typ): 5V (Max); Part Number: ESDLC5V0LB-TP; Applications: General Purpose; ComponentLink1Description: Datasheet; ComponentLink1URL: https://www.mccsemi.com/pdf/Products/ESDLC5V0LB(DFN1006-2)-V1.pdf; ComponentLink2Description: DigiKey Link; ComponentLink2URL: http://digikey.com/product-detail/en/micro-commercial-co/ESDLC5V0LB-TP/ESDLC5V0LB-TPMSCT-ND/10054444; Device Package: 0402 (1006 Metric); LastUpdated: 9/2/2020 1:28:49 AM; Lifecycle Status: Active; Minimum Order: 1; Mounting Type: Surface Mount; Operating Temperature: -55°C ~ 125°C (TJ); Package / Case: 0402 (1006 Metric); Packaging: TapeAndReel; PartId: 10483; Part Status: Active; Price: 0.05; Series: -; Supplier 1: DigiKey; Supplier Part Number 1: ESDLC5V0LB-TPMSCT-ND; Supplier Device Package: DFN1006-2
footprint 0402
pins: 1, 2

## ESDLC12VD3B-TP
designator D?
TVS DIODE 12V 28.6V SOD323; Manufacturer: Micro Commercial Co; Bidirectional Channels: 1; Capacitance @ Frequency: 3pF @ 1MHz; Current - Peak Pulse (10/1000µs): 11A (8/20µs); Power Line Protection: No; Power - Peak Pulse: 350W; Type: Zener; Voltage - Breakdown (Min): 13.3V; Part Number: ESDLC12VD3B-TP; Applications: General Purpose; ComponentLink1Description: Datasheet; ComponentLink1URL: https://www.mccsemi.com/pdf/Products/ESDLC3V3D3B-ESDLC12VD3B(SOD-323).pdf; ComponentLink2Description: DigiKey Link; ComponentLink2URL: http://digikey.com/product-detail/en/micro-commercial-co/ESDLC12VD3B-TP/ESDLC12VD3B-TPMSCT-ND/2512844; LastUpdated: 9/2/2020 1:28:29 AM; Lifecycle Status: Active; Minimum Order: 1; Mounting Type: Surface Mount; Operating Temperature: -55°C ~ 150°C (TJ); Package / Case: SC-76, SOD-323; Packaging: TapeAndReel; PartId: 9941; Part Status: Active; Price: 0.27; Series: -; Supplier 1: DigiKey; Supplier Part Number 1: ESDLC12VD3B-TPMSCT-ND; Supplier Device Package: SOD-323; Voltage - Clamping (Max) @ Ipp: 28.6V; Voltage - Reverse Standoff (Typ): 12V
footprint SOD323
pins: 1, 2

## ESDLC12VLB-TP
designator D?
12V, ESD PROTECTION DEVICES, DFN; Manufacturer: Micro Commercial Co; Bidirectional Channels: 1; Capacitance @ Frequency: 7pF @ 1MHz (Max); Current - Peak Pulse (10/1000µs): 5A (8/20µs); Power Line Protection: No; Power - Peak Pulse: 100W; Type: Zener; Voltage - Breakdown (Min): 13.3V; Voltage - Clamping (Max) @ Ipp: 20V; Voltage - Reverse Standoff (Typ): 12V (Max); Part Number: ESDLC12VLB-TP; Applications: General Purpose; ComponentLink2Description: DigiKey Link; ComponentLink2URL: http://digikey.com/product-detail/en/micro-commercial-co/ESDLC12VLB-TP/353-ESDLC12VLB-TPCT-ND/12177340; LastUpdated: 8/30/2020 9:08:11 PM; Lifecycle Status: Active; Minimum Order: 1; Mounting Type: Surface Mount; Package / Case: 0402 (1006 Metric); Packaging: Unknown; PartId: 11465; Price: 0.03; Supplier 1: DigiKey; Supplier Part Number 1: 353-ESDLC12VLB-TPCT-ND; Supplier Device Package: DFN1006-2
footprint 0402
pins: 1, 2

## ESDLIN1524BJ
designator D?
TVS DIODE 15V/24V 35V/50V SOD323; Manufacturer: STMicroelectronics; Bidirectional Channels: 1; Capacitance @ Frequency: 16pF @ 1MHz; Current - Peak Pulse (10/1000µs): 5A, 3A (8/20µs); Power Line Protection: No; Power - Peak Pulse: 160W; Type: Zener; Voltage - Breakdown (Min): 17.1V, 25.4V; Voltage - Clamping (Max) @ Ipp: 35V, 50V; Voltage - Reverse Standoff (Typ): 15V, 24V; Part Number: ESDLIN1524BJ; Applications: Automotive; ComponentLink1Description: Datasheet; ComponentLink1URL: http://www.st.com/content/ccc/resource/technical/document/datasheet/group1/b3/6c/2c/db/f4/9a/43/1a/CD00131990/files/CD00131990.pdf/jcr:content/translations/en.CD00131990.pdf; ComponentLink2Description: DigiKey Link; ComponentLink2URL: http://digikey.com/product-detail/en/stmicroelectronics/ESDLIN1524BJ/497-7751-1-ND/1883727; LastUpdated: 9/2/2020 1:28:29 AM; Lifecycle Status: Active; Minimum Order: 1; Mounting Type: Surface Mount; Operating Temperature: -40°C ~ 150°C (TJ); Package / Case: SC-76, SOD-323; Packaging: TapeAndReel; PartId: 9980; Part Status: Active; Price: 0.09; Series: Automotive, AEC-Q101, TRANSIL™; Supplier 1: DigiKey; Supplier Part Number 1: 497-7751-1-ND; Supplier Device Package: SOD-323
footprint SOD323
pins: 1, 2

## ESDM3051N2T5G
designator D?
TVS DIODE 5V 8.2V 2X2DFN; Manufacturer: ON Semiconductor; Bidirectional Channels: 1; Capacitance @ Frequency: 21pF @ 1MHz (Max); Current - Peak Pulse (10/1000µs): 8A; Power Line Protection: No; Type: Zener; Voltage - Breakdown (Min): 5.1V; Voltage - Reverse Standoff (Typ): 5V (Max); Part Number: ESDM3051N2T5G; Applications: USB; ComponentLink1Description: Datasheet; ComponentLink1URL: https://www.onsemi.com/pub/Collateral/ESDM3051-D.PDF; ComponentLink2Description: DigiKey Link; ComponentLink2URL: http://digikey.com/product-detail/en/on-semiconductor/ESDM3051N2T5G/ESDM3051N2T5GOSCT-ND/8024483; Device Package: 0402 (1006 Metric); LastUpdated: 9/2/2020 1:28:49 AM; Lifecycle Status: Active; Minimum Order: 1; Mounting Type: Surface Mount; Operating Temperature: -55°C ~ 150°C (TJ); Package / Case: 0402 (1006 Metric); Packaging: TapeAndReel; PartId: 10501; Part Status: Active; Price: 0.04; Series: -; Supplier 1: DigiKey; Supplier Part Number 1: ESDM3051N2T5GOSCT-ND; Supplier Device Package: 2-X2DFN (1x0.6); Voltage - Clamping (Max) @ Ipp: 8.2V
footprint 0402
pins: 1, 2